# Altium schematic symbol library main.SchLib: 296 symbols (part 4 of 5)
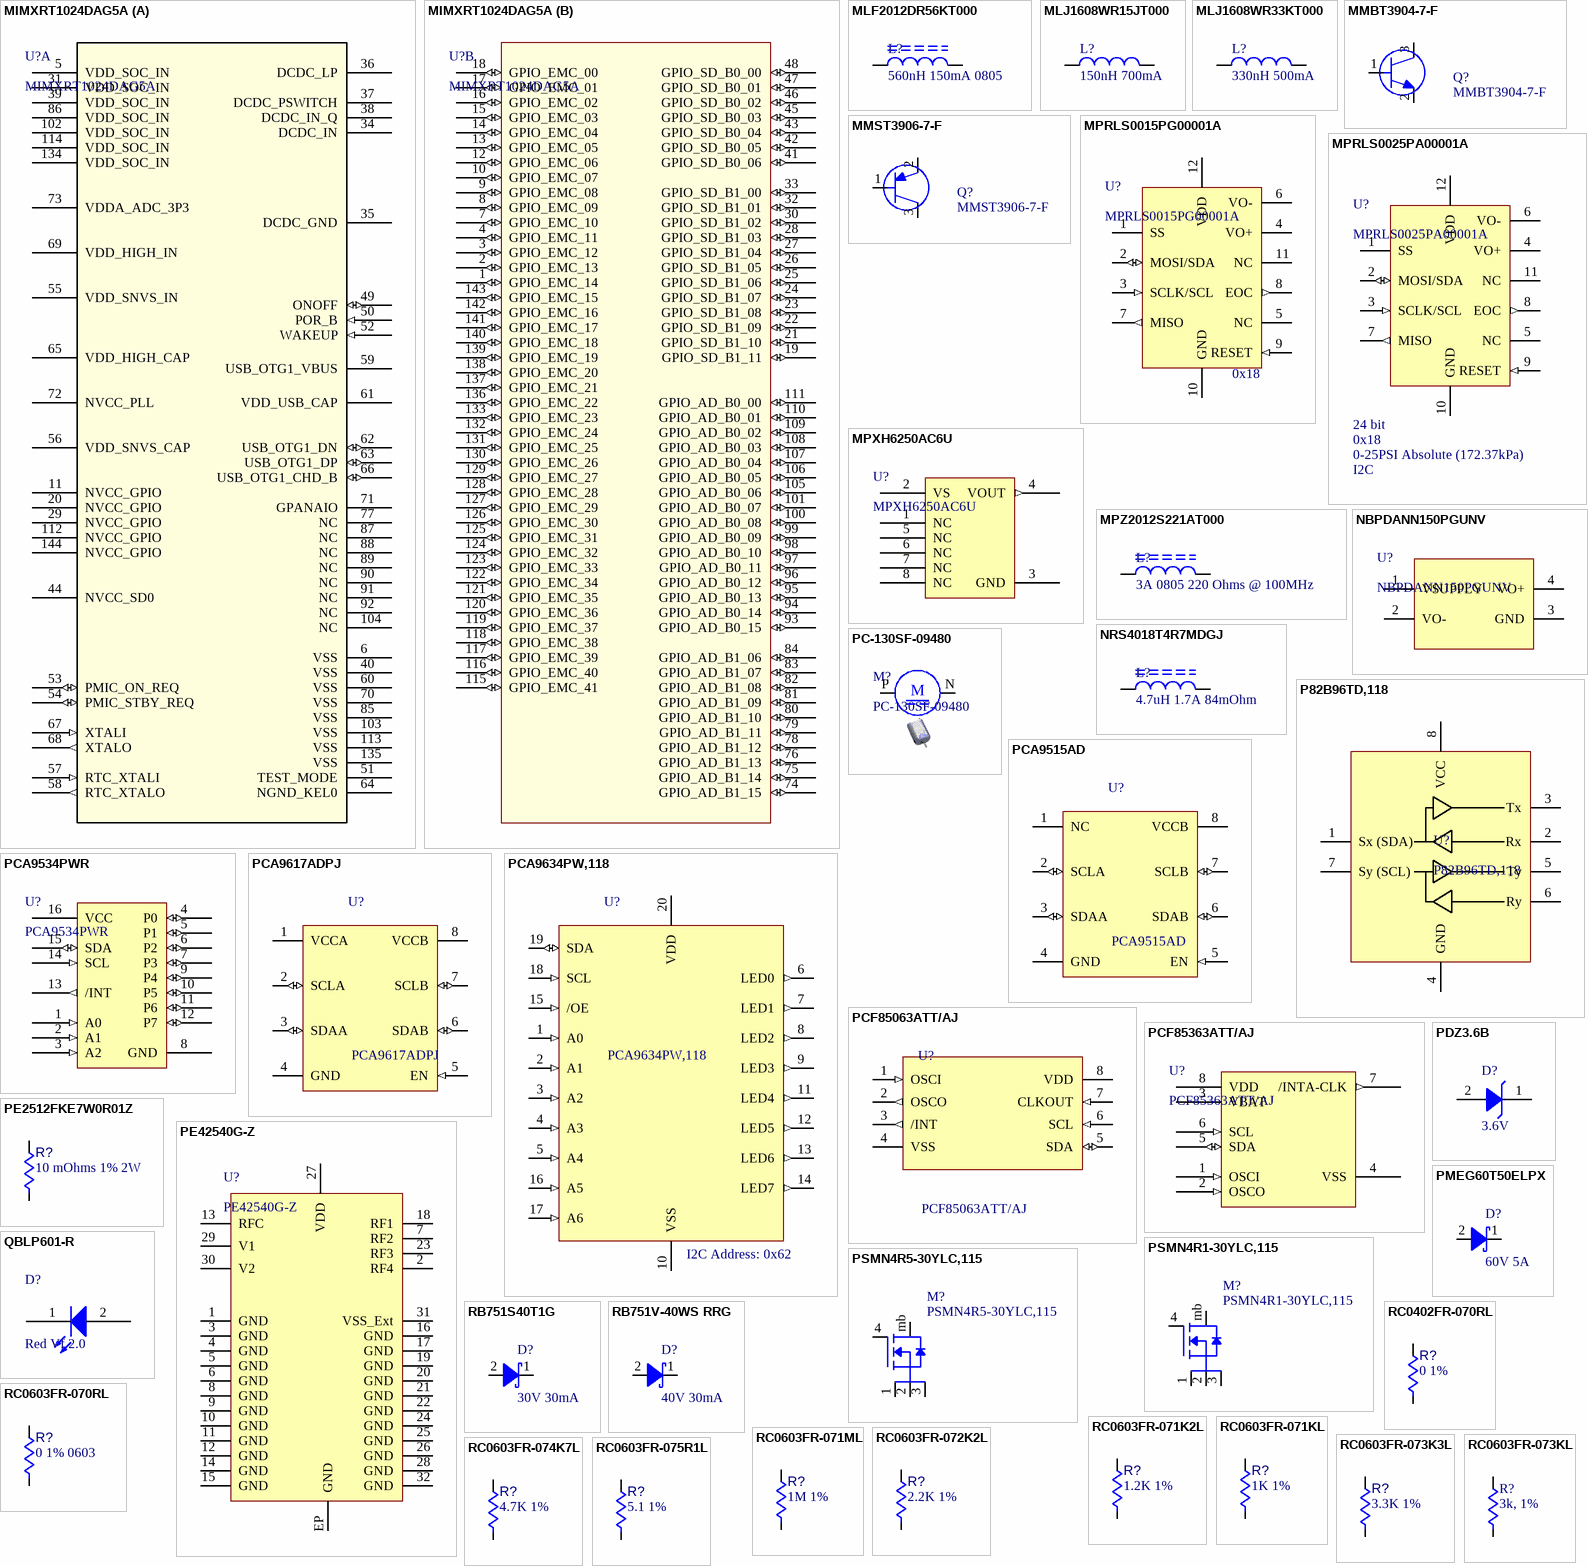
[diagram p12: symbols MIMXRT1024DAG5A to RC0603FR-075R1L]

## MPXH6250AC6U
designator U?
IC PRESSURE absolute 20-250kPA SSOP8; Manufacturer: NXP Freescale; Voltage Rating (DC): 5V; Output Type: Analog Voltage,Analog; Operating Pressure: 36.26PSI; Port Style: Barbless; Max Pressure: 145.04PSI; Accuracy: 1.5%; Max Output Voltage: 4.9V; Min Output Voltage: 4.826V; Nominal Supply Current: 6mA; Min Supply Voltage: 4.74V; Max Supply Voltage: 5.46V; Operating Supply Voltage: 5.1V; Manufacturer Part Number: MPXH6250AC6U; Category: Integrated Circuits (ICs); Stock 1: 1795; Pricing 1: 1=12.72000, 5=12.46000, 10=10.38300, 25=9.60400, 50=9.34460, 100=8.04670, 500=7.52754, 1000=7.13818 (USD); Case/Package: SSOP; Min Operating Temperature: -40°C; Max Operating Temperature: 125°C; Pressure Type: Absolute; Output Voltage: 4.9V; Height: 9.91mm; ComponentLink1URL: https://datasheet.ciiva.com/15099/getdatasheetpartid-295348-15099231.pdf?src-supplier=Verical; ComponentLink1Description: https://datasheet.ciiva.com/15099/getdatasheetpartid-295348-15099231.pdf?src-supplier=Verical; Supplier 1: Mouser; Supplier Part Number 1: 841-MPXH6250AC6U
footprint SOIC127P1040X480-8N (SOIC, 8-Leads, Body 8.26x8.26mm, Pitch 1.27mm, IPC Medium Density)
pins: 1 NC, 2 VS (power), 3 GND (power), 4 VOUT (out), 5 NC, 6 NC, 7 NC, 8 NC

## MPZ2012S221AT000
designator L?, comment 3A 0805 220 Ohms @ 100MHz
FERRITE BEAD 220 OHM 0805 1LN; Manufacturer: TDK; Manufacturer Part Number: MPZ2012S221AT000; Core Material: Metal,Composite; DC Resistance (DCR): 40mOhm; Case/Package: 0805; Min Operating Temperature: -40°C; Max Operating Temperature: 125°C; Current Rating: 3A; ComponentLink1URL: http://www.samsungsem.com/kr/support/product-search/inductor/CIGT201208EH1R0MNE.jsp?src-supplier=Digi-Key; ComponentLink1Description: http://www.samsungsem.com/kr/support/product-search/inductor/CIGT201208EH1R0MNE.jsp?src-supplier=Digi-Key; Supplier 1: Digi-Key; Supplier Part Number 1: 445-1568-1-ND; Supplier 2: Newark; Supplier Part Number 2: 99R3647
footprint CAPC2012X14N (Chip Capacitor, 2-Leads, Body 2.00x1.25mm, IPC Medium Density)
pins: 1, 2

## NBPDANN150PGUNV
designator U?
SENSOR 150 PSIG UNAMPLIFIED DIP; Manufacturer: Honeywell; Interface: Analog; Pressure Range: 150PSI Gauge; Supply Voltage: 1.5 ~ 12 VDC; Manufacturer Part Number: NBPDANN150PGUNV; Supplier 1: Digi-Key; Supplier Part Number 1: 480-5548-ND
footprint NBP Through Hole Pressure Sensor
pins: 1 VSUPPLY, 2 VO-, 3 GND, 4 VO+

## NRS4018T4R7MDGJ
designator L?, comment 4.7uH 1.7A 84mOhm
FIXED IND 4.7UH 1.7A 84 MOHM SMD; Manufacturer: Taiyo Yuden; Manufacturer Part Number: NRS4018T4R7MDGJ; Type: Wirewound; Inductance: 4.7µH; Current - Saturation (Isat): 2A; DC Resistance (DCR): 84mR; Tolerance: ±20%; Shielding: Shielded; Frequency - Self Resonant: 35MHz; Stock 1: 4346; Current Rating (Amps): 1.7A; Supplier 1: Digi-Key; Supplier Part Number 1: 587-2893-1-ND; Supplier 2: Newark; Supplier Part Number 2: 26AC2708; Supplier 3: Mouser; Supplier Part Number 3: 963-NRS4018T4R7MDGJ
footprint INDUCTOR2mmx2mmx1.8mm
pins: 1, 2

## P82B96TD,118
designator U?
IC REDRIVER I2C 2CH 400KHZ 8SO; Manufacturer: NXP; Manufacturer Part Number: P82B96TD,118; Supplier 1: Digi-Key; Supplier Part Number 1: 568-1009-1-ND
footprint SOIC-8 3.9mm Width
pins: 1 Sx (SDA), 2 Rx, 3 Tx, 4 GND (power), 5 Ty, 6 Ry, 7 Sy (SCL), 8 VCC (power)

## PC-130SF-09480
designator M?
MOTOR DC brushed 12V 130 frame TH
footprint PC-130SF-end (Nichibo PC-130SF-09480T- motor v1)
pins: N NEG, P POS
text: M

## PCA9515AD
designator U?
IC REDRIVER I2C 1CH 400KHZ 8SO; Manufacturer: NXP; Supply Voltage: 2.7V ~ 3.6V; Type: Buffer, Redriver; Data Interface: I2C; ComponentLink1Description: Link; ComponentLink1URL: https://www.digikey.com/en/products/detail/maxim-integrated/MAX11613EUA-T/2062201; Manufacturer Part Number: PCA9515AD; Supplier 1: Digi-Key; Supplier Part Number 1: 296-20646-1-ND; Supplier 2: Mouser; Supplier Part Number 2: 595-PCA9515ADGKR
footprint SOIC-8 3.9mm Width
pins: 1 NC, 2 SCLA (io), 3 SDAA (io), 4 GND, 5 EN (in), 6 SDAB (io), 7 SCLB (io), 8 VCCB (power)

## PCA9534PWR
designator U?
IC GPIO 16b expander TSSOP16; Manufacturer: Texas Instruments; Number of I/Os: 8; Frequency: 400kHz; Operating Supply Voltage: 5.5V; Supplier 1: Digi-Key; Manufacturer Part Number: PCA9534PWR; Category: Interface ICs; Stock 1: 39507; Pricing 1: 1=1.69000, 10=1.51600, 25=1.43000, 100=1.14400, 250=1.00100, 500=0.97240, 1000=0.77220 (USD); Case/Package: TSSOP; Min Operating Temperature: -40°C; Max Operating Temperature: 85°C; Max Frequency: 400kHz; Number of Outputs: 8; ComponentLink1URL: https://datasheet.ciiva.com/15134/getdatasheetpartid-253001-15134573.pdf?src-supplier=Verical; ComponentLink1Description: https://datasheet.ciiva.com/15134/getdatasheetpartid-253001-15134573.pdf?src-supplier=Verical; Supplier Part Number 1: 296-21764-1-ND
footprint PW0016A_N (SOP, 16-Leads, Body 5.1x4.5mm, Pitch 0.65mm, IPC Medium Density)
pins: 1 A0 (in), 2 A1 (in), 3 A2 (in), 4 P0 (io), 5 P1 (io), 6 P2 (io), 7 P3 (io), 8 GND (power), 9 P4 (io), 10 P5 (io), 11 P6 (io), 12 P7 (io), 13 /INT (out), 14 SCL (in), 15 SDA (io), 16 VCC (power)

## PCA9617ADPJ
designator U?
IC REDRIVER I2C 1CH 1MHZ 8TSSOP; Manufacturer: NXP; Supply Voltage: 2.7V ~ 5.5V; Type: Buffer, Redriver; Data Interface: I2C; ComponentLink1Description: Link; ComponentLink1URL: https://www.digikey.com/en/products/detail/maxim-integrated/MAX11613EUA-T/2062201; Manufacturer Part Number: PCA9617ADPJ; Supplier 1: Digi-Key; Supplier Part Number 1: 568-10211-1-ND
footprint TSOP65P490X110-8N (TSOP, 8-Leads, Body 3.00x3.00mm, Pitch 0.65mm, IPC Medium Density)
pins: 1 VCCA, 2 SCLA (io), 3 SDAA (io), 4 GND, 5 EN (in), 6 SDAB (io), 7 SCLB (io), 8 VCCB (power)

## PCA9634PW,118
designator U?  I2C Address: I2C Address: 0x62
IC LED DRVR LIN DIM 25MA 20TSSOP; Manufacturer: NXP; Number of Outputs: 8; Data Interface: I2C; Supply Voltage: 2.3V ~ 5.5V; Type: I2C LED Driver; ComponentLink1Description: Link; ComponentLink1URL: https://www.digikey.com/en/products/detail/maxim-integrated/MAX11613EUA-T/2062201; Manufacturer Part Number: PCA9634PW,118; Supplier 1: Digi-Key; Supplier Part Number 1: 568-4066-1-ND; Supplier 2: Newark; Supplier Part Number 2: 30T3005
footprint TSSOP-20, 4.4mm body width, pitch 0.65mm (TSOP, 20-Leads, Body 4.40mm width, Pitch 0.65mm)
pins: 1 A0 (in), 2 A1 (in), 3 A2 (in), 4 A3 (in), 5 A4 (in), 6 LED0 (out), 7 LED1 (out), 8 LED2 (out), 9 LED3 (out), 10 VSS (power), 11 LED4 (out), 12 LED5 (out), 13 LED6 (out), 14 LED7 (out), 15 /OE (in), 16 A5 (in), 17 A6 (in), 18 SCL (in), 19 SDA (io), 20 VDD

## PCF85063ATT/AJ
designator U?
IC RTC CLK/CALENDAR I2C 8TSSOP; Manufacturer: NXP; Time Format: HH:MM:SS (12/24 hr); Date Format: YY-MM-DD-dd; Voltage - Supply: 0.9V ~ 5.5V; Connectivity: I²C, 2 Wire Serial; Manufacturer Part Number: PCF85063ATT/AJ; Operating Temperature: -40°C ~ 85°C (TA); Type: Clock/Calendar; Supplier 1: Newark; Supplier 2: Mouser; Supplier 3: Digi-Key; Supplier Part Number 1: 31AC6849; Supplier Part Number 2: 771-PCF85063ATT/AJ; Supplier Part Number 3: 568-12404-1-ND
footprint TSOP65P490X110-8N (TSOP, 8-Leads, Body 3.00x3.00mm, Pitch 0.65mm, IPC Medium Density)
pins: 1 OSCI (in), 2 OSCO (out), 3 /INT (out), 4 VSS, 5 SDA (io), 6 SCL (in), 7 CLKOUT (in), 8 VDD (power)

## PCF85363ATT/AJ
designator U?
IC RTC coin cell backup TSSOP8; Manufacturer: NXP Semiconductors; Date Format: YY-MM-DD-dd; Time Format: HH:MM:SS:hh (12/24 hr); Interface: I2C,Serial,2-Wire; Logic Function: Clock; Max Supply Voltage: 5.5V; Min Supply Voltage: 900mV; Supplier 1: Digi-Key; Manufacturer Part Number: PCF85363ATT/AJ; Category: Real Time Clocks; Stock 1: 41625; Pricing 1: 1=1.10000, 10=0.98300, 25=0.93320, 100=0.76660, 250=0.71660, 500=0.63328, 1000=0.49995 (USD); Case/Package: TSSOP; Min Operating Temperature: -40°C; Max Operating Temperature: 85°C; ComponentLink1URL: http://www.farnell.com/datasheets/2339786.pdf?src-supplier=Farnell; ComponentLink1Description: http://www.farnell.com/datasheets/2339786.pdf?src-supplier=Farnell; Supplier Part Number 1: 568-12408-1-ND
footprint TSOP65P490X110-8N (TSOP, 8-Leads, Body 3.00x3.00mm, Pitch 0.65mm, IPC Medium Density)
pins: 1 OSCI (in), 2 OSCO (in), 3 VBAT (power), 4 VSS (power), 5 SDA (io), 6 SCL (in), 7 /INTA-CLK (out), 8 VDD (power)

## PDZ3.6B
designator D?, comment 3.6V
DIODE ZENER 3.6V 400mW SOD323; Manufacturer: Philips; Manufacturer Part Number: PDZ3.6B,115; Number of Gates: 2; Frequency: 30MHz; Output Current: 2.4mA; Supplier 1: Digi-Key; Category: Rectifier Diodes; Stock 1: 5667; Pricing 1: 1=0.20000, 10=0.18100, 25=0.17240, 100=0.07590, 250=0.07288, 500=0.05962, 1000=0.04140 (USD); Supplier Part Number 1: 1727-5151-1-ND
footprint SOP127P600-8N - SOD323 - directional (SOD323 - directional)
pins: 1 K, 2 A

## PE2512FKE7W0R01Z
designator R?, comment 10 mOhms 1% 2W
RES 10M OHM 1% 2W 2512; Manufacturer: Yageo; Manufacturer Part Number: PE2512FKE7W0R01Z; Temperature Coefficient: ±100ppm/°C; Resistance: 10meg ohm; Category: Resistors; Stock 1: 6,750; Tolerance: ±1%; Power (Watts): 2W; Operating Temperature: -55°C ~ 175°C; ComponentLink1URL: http://www.yageo.com/documents/recent/PYu-RC_Group_51_RoHS_L_7.pdf; ComponentLink1Description: http://www.yageo.com/documents/recent/PYu-RC_Group_51_RoHS_L_7.pdf; Supplier 1: Digi-Key; Supplier Part Number 1: 13-PE2512FKE7W0R01ZCT-ND
footprint Resistor 2512 (0.25''x0.125'')
pins: 1, 2

## PE42540G-Z
designator U?
IC RF SWITCH SP4T 8GHZ 32LGA; Manufacturer: pSemi; Number of Channels: 1; Voltage - Supply: 3.3V; Frequency Range: 10GHx-8GHz; Manufacturer Part Number: PE42540G-Z; Category: RF Switches; Min Operating Temperature: -40°C; Max Operating Temperature: 85°C; Circuit: SP4T; ComponentLink1URL: https://datasheet.ciiva.com/4787/ds-ft232r-11534-4787658.pdf?src-supplier=Mouser; ComponentLink1Description: https://datasheet.ciiva.com/4787/ds-ft232r-11534-4787658.pdf?src-supplier=Mouser; Supplier 1: Digi-Key; Supplier Part Number 1: 1046-1064-1-ND
footprint VFQFPN-32 5x5mm w EP
pins: 1 GND (power), 2 RF4 (power), 3 GND (power), 4 GND (power), 5 GND (power), 6 GND (power), 7 RF2 (power), 8 GND (power), 9 GND (power), 10 GND (power), 11 GND (power), 12 GND (power), 13 RFC (power), 14 GND (power), 15 GND (power), 16 GND (power), 17 GND (power), 18 RF1 (power), 19 GND (power), 20 GND (power), 21 GND (power), 22 GND (power), 23 RF3 (power), 24 GND (power), 25 GND (power), 26 GND (power), 27 VDD (power), 28 GND (power), 29 V1 (power), 30 V2 (power), 31 VSS_Ext (power), 32 GND (power), EP GND (power)

## PMEG60T50ELPX
designator D?, comment 60V 5A
DIODE SCHOTTKY 60V 5A SOD-128; Manufacturer: Nexperia USA Inc; Manufacturer Part Number: PMEG60T50ELPX; Forward Voltage: 690mV @ 5A; Capacitance: 560pF @ 1V, 1MHz; Output Current: 30mA; Max Reverse Leakage Current: 1.8 µA @ 60 V; Operating Temperature - Junction: 175°C (max); Voltage Rating (DC): 60V; Supplier 1: Digi-Key; Supplier 2: Mouser; Supplier Part Number 2: 771-PMEG60T50ELPX; Supplier Part Number 1: 1727-7808-1-ND
footprint SOD-128
pins: 1 K, 2 A

## PSMN4R1-30YLC,115
designator M?
MOSFET N-CH 30V 92A LFPAK56; Manufacturer: NXP; Gate to Source Voltage (Vgs): 20V; Rds On Max: 4.35mOhm @ 20A, 10V; Power Dissipation (Max): 61W; Input Capacitance: 1502 pF @ 15 V; Gate Charge: 23 nC @ 10 V; SOA DC: 2.5A @ 12VDS; SOA 1ms: 20A @ 12VDS; Manufacturer Part Number: PSMN4R1-30YLC,115; Min Operating Temperature: -55°C; Max Operating Temperature: 175°C; Type: N-Channel; Current - Continuous Drain (Id) @ 25°C: 92A; Drain to Source Voltage (Vdss): 30V; Drain to Source Breakdown Voltage: 30V; ComponentLink1URL: https://datasheet.ciiva.com/13063/csd18531q5a-108247-13063440.pdf; ComponentLink1Description: https://datasheet.ciiva.com/13063/csd18531q5a-108247-13063440.pdf; Supplier 1: Digi-Key; Supplier Part Number 1: 1727-5304-1-ND
footprint SOT669
pins: 1 S1, 2 S2, 3 S3, 4 G, mb D8

## PSMN4R5-30YLC,115
designator M?
MOSFET N-CH 30V 84A LFPAK56; Manufacturer: NXP; Gate to Source Voltage (Vgs): 20V; Rds On Max: 4.8mOhm @ 20A, 10V; Drain to Source Voltage (Vdss): 60V; Power Dissipation (Max): 61W; Input Capacitance: 1324 pF @ 15 V; Gate Charge: 20.5 nC @ 10 V; SOA DC: 3A @ 12VDS; SOA 1ms: 20A @ 12VDS; Manufacturer Part Number: PSMN4R5-30YLC,115; Min Operating Temperature: -55°C; Max Operating Temperature: 175°C; Type: N-Channel; Current - Continuous Drain (Id) @ 25°C: 84A; Drain to Source Breakdown Voltage: 30V; ComponentLink1URL: https://datasheet.ciiva.com/13063/csd18531q5a-108247-13063440.pdf; ComponentLink1Description: https://datasheet.ciiva.com/13063/csd18531q5a-108247-13063440.pdf; Supplier 1: Digi-Key; Supplier Part Number 1: 1727-5305-1-ND
footprint SOT669
pins: 1 S1, 2 S2, 3 S3, 4 G, mb D8

## QBLP601-R
designator D?, comment Red Vf 2.0
LED RED 0603; Manufacturer: QT Brightek (QTB); Manufacturer Part Number: QBLP601-R; Lens Color: Colorless; Lens Transparency: Clear; Millicandela Rating: 100mcd; Lens Style/Size: Rectangle with Flat Top, 1.10mm x 0.80mm; Voltage - Forward (Vf) (Typ): 2V; Current - Test: 20mA; Wavelength - Dominant: 625nm; Supplier 1: Digi-Key; Stock 1: 2439; Viewing Angle: -; Supplier Part Number 1: 1516-1059-1-ND; Category: Optoelectronics; Pricing 1: 1=0.47, 10=0.337, 25=0.258, 100=0.1683, 250=0.12344, 500=0.10472, 1000=0.08602 (USD); Mounting Type: Surface Mount; Wavelength - Peak: -; Features: -; Height (Max): 0.60mm; ComponentLink1URL: http://www.qt-brightek.com/datasheet/QBLP601_series.pdf; ComponentLink1Description: http://www.qt-brightek.com/datasheet/QBLP601_series.pdf
footprint LS0603_LED (MATCHES OSRAM LS-603 PACKAGE)
pins: 1 K, 2 A

## RB751S40T1G
designator D?, comment 30V 30mA
DIODE SCHOTTKY 30V 30MA SOD523; Manufacturer: ON Semiconductor / Fairchild; Manufacturer Part Number: RB751S40T1G; Forward Voltage: 370 mV @ 1 mA; Capacitance: 2.5pF @ 1V, 1MHz; Max Reverse Leakage Current: 500nA @30V; Min Operating Temperature: -55°C; Max Operating Temperature: 150°C; Voltage Rating (DC): 30V; Output Current: 30mA; Reverse Voltage: 30V; Supplier 1: Digi-Key; Supplier Part Number 1: RB751S40T1GOSCT-ND
footprint SOD-523
pins: 1 K, 2 A

## RB751V-40WS RRG
designator D?, comment 40V 30mA
DIODE SCHOTTKY 40V 30MA SOD323F; Manufacturer: ON Semiconductor / Fairchild; Manufacturer Part Number: RB751V-40WS RRG; Forward Voltage: 370 mV @ 1 mA; Capacitance: 2pF @ 1V, 1MHz; Max Reverse Leakage Current: 500nA @40V; Min Operating Temperature: -40°C; Max Operating Temperature: 125°C; Voltage Rating (DC): 40V; Output Current: 30mA; Reverse Voltage: 40V; Supplier 1: Digi-Key; Supplier Part Number 1: RB751V-40WSRRGCT-ND; Supplier 2: Mouser; Supplier Part Number 2: 821-RB751V-40WSRRG
footprint SOD-323 UNIDIRECTIONAL
pins: 1 K, 2 A

## RC0402FR-070RL
designator R?, comment 0 1%
RES 0 JUMPER 1/10W 0402; Manufacturer: Yageo; Manufacturer Part Number: RC0402FR-070RL; Resistance: 0mR; Power Rating: 62.5mW; Voltage Rating: 50V; Temperature Coefficient: 200ppm/°C; Supplier 1: Digi-Key; Category: Chip SMD Resistors; Stock 1: 2292192; Pricing 1: 1=0.10000, 10=0.01300, 25=0.00920, 50=0.00720, 100=0.00530, 250=0.00400, 500=0.00320, 1000=0.00236, 5000=0.00169 (USD); Case/Package: 0402; Min Operating Temperature: -55°C; Max Operating Temperature: 155°C; Tolerance: 1%; Height: 0.35mm; ComponentLink1URL: https://datasheet.ciiva.com/8896/pyu-rc0402-51-rohs-l-6-8896149.pdf?src-supplier=Avnet; ComponentLink1Description: https://datasheet.ciiva.com/8896/pyu-rc0402-51-rohs-l-6-8896149.pdf?src-supplier=Avnet; Supplier Part Number 1: 311-0.0LRCT-ND
pins: 1, 2

## RC0603FR-070RL
designator R?, comment 0 1% 0603
RES 0 JUMPER 1/10W 0603; Manufacturer: Yageo; Manufacturer Part Number: RC0603FR-070RL; Power (Watts): 0.1W, 1/10W; Category: Resistors; Stock 1: 978054; Pricing 1: 1=0.1, 10=0.013, 25=0.0092, 50=0.007, 100=0.0052, 250=0.00396, 500=0.00316, 1000=0.00233 (USD); Tolerance: Jumper; Features: Moisture Resistant; Temperature Coefficient: -; Operating Temperature: -55°C ~ 155°C; ComponentLink1URL: http://www.yageo.com/documents/recent/PYu-RC_Group_51_RoHS_L_7.pdf; ComponentLink1Description: http://www.yageo.com/documents/recent/PYu-RC_Group_51_RoHS_L_7.pdf; Supplier 1: Newark; Supplier Part Number 1: 50Y7761
footprint RESC1608X06N (Chip Resistor, 2-Leads, Body 1.60x0.80mm, IPC Medium Density)
pins: 1, 2

## RC0603FR-071K2L
designator R?, comment 1.2K 1%
RES SMD 1.2K OHM 1% 1/10W 0603; Manufacturer: Yageo; Manufacturer Part Number: RC0603FR-071K2L; Temperature Coefficient: 100ppm/°C; Power Rating: 100mW; Voltage Rating (DC): 50V; Resistance: 1.2kR; Supplier 1: Digi-Key; Category: Chip SMD Resistors; Pricing 1: 1=0.10000, 10=0.02300, 100=0.00940, 1000=0.00421, 2500=0.00366 (USD); Case/Package: 0603; Min Operating Temperature: -55°C; Max Operating Temperature: 155°C; Tolerance: 1%; Voltage Rating: 50V; Height: 0.45mm; ComponentLink1URL: http://www.farnell.com/datasheets/2167052.pdf?src-supplier=Farnell; ComponentLink1Description: http://www.farnell.com/datasheets/2167052.pdf?src-supplier=Farnell; Supplier Part Number 1: 311-1.20KHRCT-ND
footprint RESC1608X06N (Chip Resistor, 2-Leads, Body 1.60x0.80mm, IPC Medium Density)
pins: 1, 2

## RC0603FR-071KL
designator R?, comment 1K 1%
RES SMD 1K OHM 1% 1/10W 0603; Manufacturer: Yageo; Manufacturer Part Number: RC0603FR-071KL; Power (Watts): 0.1W, 1/10W; Temperature Coefficient: ±100ppm/°C; Resistance: 1kohm; Category: Resistors; Pricing 1: 1=0.1, 10=0.015, 100=0.006, 1000=0.00268, 2500=0.00233 (USD); Tolerance: ±1%; Features: Moisture Resistant; Operating Temperature: -55°C ~ 155°C; Stock 1: 28,390,477; Supplier 1: Digi-Key; Supplier Part Number 1: 311-1.00KHRCT-ND
footprint RESC1608X06N (Chip Resistor, 2-Leads, Body 1.60x0.80mm, IPC Medium Density)
pins: 1, 2

## RC0603FR-071ML
designator R?, comment 1M 1%
RES SMD 1M OHM 1% 1/10W 0603; Manufacturer: Yageo; Manufacturer Part Number: RC0603FR-071ML; Power (Watts): 0.1W, 1/10W; Temperature Coefficient: ±100ppm/°C; Resistance: 1Meg ohm; Supplier 1: Digi-Key; Category: Resistors; Stock 1: 3013629; Pricing 1: 1=0.1, 10=0.015, 100=0.006, 1000=0.00268, 2500=0.00233 (USD); Tolerance: ±1%; Features: Moisture Resistant; Operating Temperature: -55°C ~ 155°C; ComponentLink1URL: http://www.yageo.com/documents/recent/PYu-RC_Group_51_RoHS_L_7.pdf; ComponentLink1Description: http://www.yageo.com/documents/recent/PYu-RC_Group_51_RoHS_L_7.pdf; Supplier Part Number 1: 311-1.00MHRCT-ND
footprint RESC1608X06N (Chip Resistor, 2-Leads, Body 1.60x0.80mm, IPC Medium Density)
pins: 1, 2

## RC0603FR-072K2L
designator R?, comment 2.2K 1%
RES SMD 2.2K OHM 1% 1/10W 0603; Manufacturer: Yageo; Manufacturer Part Number: RC0603FR-072K2L; Resistance: 2.2kR; Temperature Coefficient: 100ppm/°C; Power Rating: 100mW; Voltage Rating: 50V; ComponentLink1URL: http://www.yageo.com/documents/recent/PYu-RC_Group_51_RoHS_L_7.pdf; ComponentLink1Description: http://www.yageo.com/documents/recent/PYu-RC_Group_51_RoHS_L_7.pdf; Supplier 1: Digi-Key; Supplier Part Number 1: 311-2.20KHRCT-ND; Stock 1: 7114; Pricing 1: 1=0.1, 10=0.015, 100=0.006, 1000=0.00268, 2500=0.00233 (USD); Case/Package: 0603; Min Operating Temperature: -55°C; Max Operating Temperature: 155°C; Tolerance: 1%; Number of Terminations: 2; Max Power Dissipation: 100mW; Height: 0.022inch
footprint RESC1608X06N (Chip Resistor, 2-Leads, Body 1.60x0.80mm, IPC Medium Density)
pins: 1, 2

## RC0603FR-073K3L
designator R?, comment 3.3K 1%
RES SMD 3.3K OHM 1% 1/10W 0603; Manufacturer: Yageo; Manufacturer Part Number: RC0603FR-073K3L; Power (Watts): 0.1W, 1/10W; Temperature Coefficient: ±100ppm/°C; Category: Resistors; Tolerance: ±1%; Features: Moisture Resistant; Operating Temperature: -55°C ~ 155°C; Stock 1: 2,139,603; Supplier 1: Digi-Key; Supplier Part Number 1: 311-3.30KHRCT-ND; Resistance: 3.3kohm
footprint RESC1608X06N (Chip Resistor, 2-Leads, Body 1.60x0.80mm, IPC Medium Density)
pins: 1, 2

## RC0603FR-073KL
designator R?, comment 3k, 1%
RES SMD 3K OHM 1% 1/10W 0603; Manufacturer: Yageo; Manufacturer Part Number: RC0603FR-073KL; Power (Watts): 0.1W, 1/10W; Temperature Coefficient: ±100ppm/°C; Resistance: 3kohm; Category: Resistors; Stock 1: 1,794,253; Tolerance: ±1%; Features: Moisture Resistant; Operating Temperature: -55°C ~ 155°C; ComponentLink1URL: http://www.yageo.com/documents/recent/PYu-RC_Group_51_RoHS_L_9.pdf; ComponentLink1Description: http://www.yageo.com/documents/recent/PYu-RC_Group_51_RoHS_L_9.pdf; Supplier 1: Digi-Key; Supplier Part Number 1: P3.00KLCT-ND
footprint RESC1608X06N (Chip Resistor, 2-Leads, Body 1.60x0.80mm, IPC Medium Density)
pins: 1, 2

## RC0603FR-074K7L
designator R?, comment 4.7K 1%
RES SMD 4.7K OHM 1% 1/10W 0603; Manufacturer: Yageo; Manufacturer Part Number: RC0603FR-074K7L; Temperature Coefficient: 100ppm/°C; Resistance: 4.7kR; Voltage Rating (DC): 50V; Power Rating: 100mW; Supplier 1: Digi-Key; Category: Chip SMD Resistors; Stock 1: 3537070; Pricing 1: 1=0.10000, 10=0.02300, 100=0.00940, 1000=0.00421, 2500=0.00366 (USD); Case/Package: 0603; Min Operating Temperature: -55°C; Max Operating Temperature: 155°C; Tolerance: 1%; Voltage Rating: 50V; Height: 0.45mm; Lead Pitch: 0.3mm; ComponentLink1URL: https://datasheet.ciiva.com/15189/getdatasheetpartid-422754-15189760.pdf?src-supplier=Verical; ComponentLink1Description: https://datasheet.ciiva.com/15189/getdatasheetpartid-422754-15189760.pdf?src-supplier=Verical; Supplier Part Number 1: 311-4.70KHRDKR-ND
footprint RESC1608X06N (Chip Resistor, 2-Leads, Body 1.60x0.80mm, IPC Medium Density)
pins: 1, 2

## RC0603FR-075R1L
designator R?, comment 5.1 1%
RES SMD 5.1 OHM 1% 1/10W 0603; Manufacturer: Yageo; Manufacturer Part Number: RC0603FR-075R1L; Resistance: 5.1R; Power Rating: 100mW; Temperature Coefficient: 200ppm/°C; Voltage Rating: 50V; Supplier 1: Arrow; Category: Chip SMD Resistors; Stock 1: 2440; Pricing 1: 1=0.03400, 10=0.02360, 25=0.02330, 100=0.01200, 250=0.01190, 500=0.01110, 1000=0.00800 (USD); Case/Package: 0603; Min Operating Temperature: -55°C; Max Operating Temperature: 155°C; Tolerance: 1%; Features: Moisture Resistant; Max Power Dissipation: 100mW; Number of Terminations: 2; Height: 0.45mm; ComponentLink1URL: http://components.arrow.com/part/dataview/0323_00200983?src-supplier=Arrow+Europe; ComponentLink1Description: http://components.arrow.com/part/dataview/0323_00200983?src-supplier=Arrow+Europe; Supplier Part Number 1: RC0603FR-07 5R1L
footprint RESC1608X06N (Chip Resistor, 2-Leads, Body 1.60x0.80mm, IPC Medium Density)
pins: 1, 2

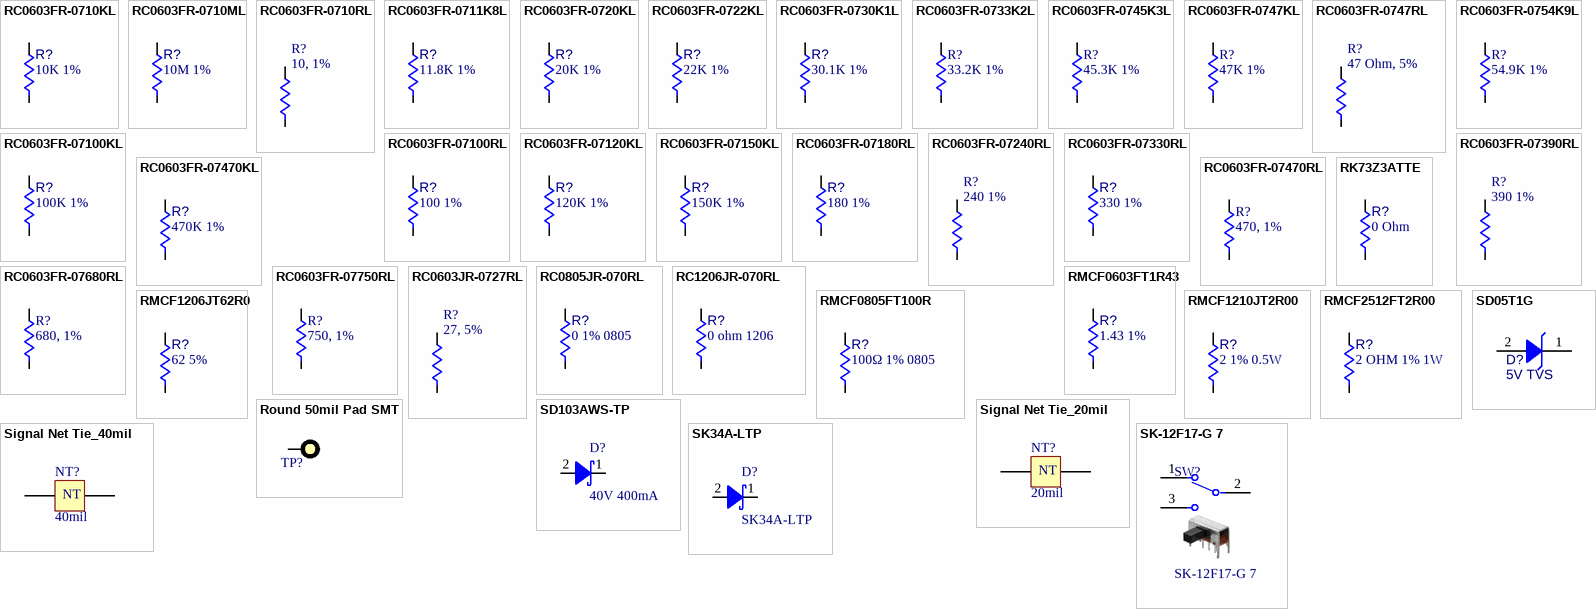
[diagram p7: symbols RC0603FR-0710KL to SK-12F17-G 7]

## RC0603FR-0710KL
designator R?, comment 10K 1%
RES SMD 10K OHM 1% 1/10W 0603; Manufacturer: Yageo; Manufacturer Part Number: RC0603FR-0710KL; Power (Watts): 0.1W, 1/10W; Temperature Coefficient: ±100ppm/°C; Resistance: 10kohm; Category: Resistors; Stock 1: 27,995,373; Pricing 1: 1=0.1, 10=0.015, 100=0.006, 1000=0.00268, 2500=0.00233 (USD); Tolerance: ±1%; Features: Moisture Resistant; Operating Temperature: -55°C ~ 155°C; ComponentLink1URL: http://www.yageo.com/documents/recent/PYu-RC_Group_51_RoHS_L_7.pdf; ComponentLink1Description: http://www.yageo.com/documents/recent/PYu-RC_Group_51_RoHS_L_7.pdf; Supplier 1: Digi-Key; Supplier Part Number 1: 311-10.0KHRCT-ND
footprint RESC1608X06N (Chip Resistor, 2-Leads, Body 1.60x0.80mm, IPC Medium Density)
pins: 1, 2

## RC0603FR-0710ML
designator R?, comment 10M 1%
RES SMD 10M OHM 1% 1/10W 0603; Manufacturer: Yageo; Manufacturer Part Number: RC0603FR-0710ML; Voltage Rating: 50V; Resistance: 10MR; Power Rating: 100mW; Tolerance: 5%; Temperature Coefficient: 100ppm/°C; Stock 1: 2965000; Pricing 1: 5000=0.00285, 10000=0.00248, 25000=0.00218, 50000=0.002 (USD); Case/Package: 0603; Min Operating Temperature: -55°C; Max Operating Temperature: 155°C; Voltage Rating (DC): 50V; Number of Terminations: 2; Max Power Dissipation: 100mW; Features: Moisture Resistant; Height: 0.022inch; Supplier 1: Digi-Key; Supplier Part Number 1: 311-10.0MHRCT-ND
footprint RESC1608X06N (Chip Resistor, 2-Leads, Body 1.60x0.80mm, IPC Medium Density)
pins: 1, 2

## RC0603FR-0710RL
designator R?, comment 10, 1%
RES SMD 10 OHM 1% 1/10W 0603; Manufacturer: Yageo; Manufacturer Part Number: RC0603FR-0710RL; Power (Watts): 0.1W, 1/10W; Temperature Coefficient: ±200ppm/°C; Resistance: 10ohms; Supplier 1: Digi-Key; Category: Resistors; Stock 1: 4452389; Pricing 1: 1=0.1, 10=0.015, 100=0.006, 1000=0.00268, 2500=0.00233 (USD); Tolerance: ±1%; Features: Moisture Resistant; Operating Temperature: -55°C ~ 155°C; ComponentLink1URL: http://www.yageo.com/documents/recent/PYu-RC_Group_51_RoHS_L_8.pdf; ComponentLink1Description: http://www.yageo.com/documents/recent/PYu-RC_Group_51_RoHS_L_8.pdf; Supplier Part Number 1: 311-10.0HRCT-ND
footprint RESC1608X06N (Chip Resistor, 2-Leads, Body 1.60x0.80mm, IPC Medium Density)
pins: 1, 2

## RC0603FR-0711K8L
designator R?, comment 11.8K 1%
RES SMD 11.8K OHM 1% 1/10W 0603; Manufacturer: Yageo; Manufacturer Part Number: RC0603FR-0711K8L; Temperature Coefficient: 100ppm/°C; Voltage Rating (DC): 50V; Resistance: 11.8kR; Power Rating: 100mW; Supplier 1: Digi-Key; Category: Chip SMD Resistors; Stock 1: 385078; Pricing 1: 1=0.10000, 10=0.02300, 100=0.00940, 1000=0.00421, 2500=0.00366 (USD); Case/Package: 0603; Min Operating Temperature: -55°C; Max Operating Temperature: 155°C; Tolerance: 1%; Voltage Rating: 50V; ComponentLink1URL: http://www.mouser.com/ds/2/447/RC0603-272842.pdf?src-supplier=Mouser; ComponentLink1Description: http://www.mouser.com/ds/2/447/RC0603-272842.pdf?src-supplier=Mouser; Supplier Part Number 1: 311-11.8KHRCT-ND
footprint RESC1608X06N (Chip Resistor, 2-Leads, Body 1.60x0.80mm, IPC Medium Density)
pins: 1, 2

## RC0603FR-0720KL
designator R?, comment 20K 1%
RES SMD 20K OHM 1% 1/10W 0603; Manufacturer: Yageo; Manufacturer Part Number: RC0603FR-0720KL; Power (Watts): 0.1W, 1/10W; Temperature Coefficient: ±100ppm/°C; Resistance: 20kohm; Category: Resistors; Stock 1: 4,317,543; Tolerance: ±1%; Features: Moisture Resistant; Operating Temperature: -55°C ~ 155°C; ComponentLink1URL: http://www.yageo.com/documents/recent/PYu-RC_Group_51_RoHS_L_7.pdf; ComponentLink1Description: http://www.yageo.com/documents/recent/PYu-RC_Group_51_RoHS_L_7.pdf; Supplier 1: Digi-Key; Supplier Part Number 1: 311-20.0KHRCT-ND
footprint RESC1608X06N (Chip Resistor, 2-Leads, Body 1.60x0.80mm, IPC Medium Density)
pins: 1, 2

## RC0603FR-0722KL
designator R?, comment 22K 1%
RES SMD 22K OHM 1% 1/10W 0603; Manufacturer: Yageo; Manufacturer Part Number: RC0603FR-0722KL; Power (Watts): 0.1W, 1/10W; Temperature Coefficient: ±100ppm/°C; Resistance: 22kohm; Supplier 1: Digi-Key; Category: Resistors; Stock 1: 1522212; Pricing 1: 1=0.1, 10=0.015, 100=0.006, 1000=0.00268, 2500=0.00233 (USD); Tolerance: ±1%; Features: Moisture Resistant; Operating Temperature: -55°C ~ 155°C; ComponentLink1URL: http://www.yageo.com/documents/recent/PYu-RC_Group_51_RoHS_L_7.pdf; ComponentLink1Description: http://www.yageo.com/documents/recent/PYu-RC_Group_51_RoHS_L_7.pdf; Supplier Part Number 1: 311-22.0KHRCT-ND
footprint RESC1608X06N (Chip Resistor, 2-Leads, Body 1.60x0.80mm, IPC Medium Density)
pins: 1, 2

## RC0603FR-0730K1L
designator R?, comment 30.1K 1%
RES SMD 30.1K OHM 1% 1/10W 0603; Manufacturer: Yageo; Manufacturer Part Number: RC0603FR-0730K1L; Resistance: 30.1kR; Temperature Coefficient: 100ppm/°C; Voltage Rating (DC): 50V; Power Rating: 100mW; Working Voltage: 75V; Supplier 1: Digi-Key; Category: Chip SMD Resistors; Stock 1: 765201; Pricing 1: 1=0.10000, 10=0.02300, 100=0.00940, 1000=0.00421, 2500=0.00366 (USD); Case/Package: 0603; Min Operating Temperature: -55°C; Max Operating Temperature: 155°C; Tolerance: 1%; Voltage Rating: 50V; Number of Terminations: 2; Height: 0.45mm; ComponentLink1URL: https://datasheet.ciiva.com/11808/0900766b80f96399-11808101.pdf?src-supplier=RSComponents; ComponentLink1Description: https://datasheet.ciiva.com/11808/0900766b80f96399-11808101.pdf?src-supplier=RSComponents; Supplier Part Number 1: 311-30.1KHRCT-ND
footprint RESC1608X06N (Chip Resistor, 2-Leads, Body 1.60x0.80mm, IPC Medium Density)
pins: 1, 2

## RC0603FR-0733K2L
designator R?, comment 33.2K 1%
RES SMD 33.2K OHM 1% 1/10W 0603; Manufacturer: Yageo; Manufacturer Part Number: RC0603FR-0733K2L; Resistance: 33.2kR; Temperature Coefficient: 100ppm/°C; Voltage Rating (DC): 50V; Power Rating: 100mW; Stock 1: 942253; Pricing 1: 1=0.1, 10=0.009, 50=0.009, 100=0.003, 1000=0.003, 10000=0.002 (USD); Case/Package: 0603; Min Operating Temperature: -55°C; Max Operating Temperature: 155°C; Tolerance: 1%; Voltage Rating: 50V; Number of Terminations: 2; Max Power Dissipation: 100mW; Height: 0.022inch; Supplier 1: Digi-Key; Supplier Part Number 1: 311-33.2KHRCT-ND
footprint RESC1608X06N (Chip Resistor, 2-Leads, Body 1.60x0.80mm, IPC Medium Density)
pins: 1, 2

## RC0603FR-0745K3L
designator R?, comment 45.3K 1%
RES SMD 45.3K OHM 1% 1/10W 0603; Manufacturer: Yageo; Manufacturer Part Number: RC0603FR-0745K3L; Resistance: 45.3kR; Power Rating: 100mW; Voltage Rating: 50V; Temperature Coefficient: 100ppm/°C; Supplier 1: Digi-Key; Category: Chip SMD Resistors; Stock 1: 319636; Pricing 1: 1=0.10000, 10=0.02300, 100=0.00940, 1000=0.00421, 2500=0.00366 (USD); Case/Package: 0603; Min Operating Temperature: -55°C; Max Operating Temperature: 155°C; Tolerance: 1%; Number of Terminations: 2; Max Power Dissipation: 100mW; Voltage Rating (DC): 50V; Features: Moisture Resistant; Height: 0.022inch; ComponentLink1URL: https://datasheet.ciiva.com/15189/getdatasheetpartid-251849-15189734.pdf?src-supplier=Verical; ComponentLink1Description: https://datasheet.ciiva.com/15189/getdatasheetpartid-251849-15189734.pdf?src-supplier=Verical; Supplier Part Number 1: 311-45.3KHRCT-ND
footprint RESC1608X06N (Chip Resistor, 2-Leads, Body 1.60x0.80mm, IPC Medium Density)
pins: 1, 2

## RC0603FR-0747KL
designator R?, comment 47K 1%
RES SMD 47K OHM 1% 1/10W 0603; Manufacturer: Yageo; Manufacturer Part Number: RC0603FR-0747KL; Resistance: 47kR; Temperature Coefficient: 100ppm/°C; Voltage Rating (DC): 50V; Power Rating: 100mW; Supplier 1: Mouser; Supplier Part Number 1: 603-RC0603FR-0747KL; Stock 1: 942253; Pricing 1: 1=0.1, 10=0.009, 50=0.009, 100=0.003, 1000=0.003, 10000=0.002 (USD); Case/Package: 0603; Min Operating Temperature: -55°C; Max Operating Temperature: 155°C; Tolerance: 1%; Voltage Rating: 50V; Number of Terminations: 2; Max Power Dissipation: 100mW; Height: 0.022inch; ComponentLink1URL: https://datasheet.ciiva.com/11808/0900766b80f96399-11808118.pdf; ComponentLink1Description: https://datasheet.ciiva.com/11808/0900766b80f96399-11808118.pdf
footprint RESC1608X06N (Chip Resistor, 2-Leads, Body 1.60x0.80mm, IPC Medium Density)
pins: 1, 2

## RC0603FR-0747RL
designator R?, comment 47 Ohm, 5%
RES SMD 47 OHM 1% 1/10W 0603; Manufacturer: Yageo; Manufacturer Part Number: RC0603FR-0747RL; Voltage Rating (DC): 50V; Resistance: 47R; Power Rating: 100mW; Temperature Coefficient: 100ppm/°C; Category: Chip SMD Resistors; Stock 1: 880,987; Pricing 1: 1=0.10000, 10=0.01900, 100=0.00770, 1000=0.00347, 2500=0.00301 (USD); Case/Package: 0603; Min Operating Temperature: -55°C; Max Operating Temperature: 155°C; Tolerance: 5%; Supplier 1: Digi-Key; Supplier Part Number 1: 311-47.0HRCT-ND; Load: *
footprint RESC1608X06N (Chip Resistor, 2-Leads, Body 1.60x0.80mm, IPC Medium Density)
pins: 1, 2

## RC0603FR-0754K9L
designator R?, comment 54.9K 1%
RES SMD 54.9K OHM 1% 1/10W 0603; Manufacturer: Yageo; Manufacturer Part Number: RC0603FR-0754K9L; Resistance: 54.9kR; Temperature Coefficient: 100ppm/°C; Voltage Rating (DC): 50V; Power Rating: 100mW; Stock 1: 942253; Pricing 1: 1=0.1, 10=0.009, 50=0.009, 100=0.003, 1000=0.003, 10000=0.002 (USD); Case/Package: 0603; Min Operating Temperature: -55°C; Max Operating Temperature: 155°C; Tolerance: 1%; Voltage Rating: 50V; Number of Terminations: 2; Max Power Dissipation: 100mW; Height: 0.022inch; Supplier 1: Digi-Key; Supplier Part Number 1: 311-54.9KHRCT-ND
footprint RESC1608X06N (Chip Resistor, 2-Leads, Body 1.60x0.80mm, IPC Medium Density)
pins: 1, 2

## RC0603FR-07100KL
designator R?, comment 100K 1%
RES SMD 100K OHM 1% 1/10W 0603; Manufacturer: Yageo; Manufacturer Part Number: RC0603FR-07100KL; Power (Watts): 0.1W, 1/10W; Temperature Coefficient: ±100ppm/°C; Resistance: 100kohms; Category: Resistors; Stock 1: 23,561,958; Tolerance: ±1%; Features: Moisture Resistant; Operating Temperature: -55°C ~ 155°C; ComponentLink1URL: http://www.yageo.com/documents/recent/PYu-RC_Group_51_RoHS_L_7.pdf; ComponentLink1Description: http://www.yageo.com/documents/recent/PYu-RC_Group_51_RoHS_L_7.pdf; Supplier 1: Digi-Key; Supplier Part Number 1: 311-100KHRCT-ND
footprint RESC1608X06N (Chip Resistor, 2-Leads, Body 1.60x0.80mm, IPC Medium Density)
pins: 1, 2

## RC0603FR-07100RL
designator R?, comment 100 1%
RES SMD 100 OHM 1% 1/10W 0603; Manufacturer: Yageo; Manufacturer Part Number: RC0603FR-07100RL; Power (Watts): 0.1W, 1/10W; Temperature Coefficient: ±100ppm/°C; Resistance: 100ohms; Supplier 1: Digi-Key; Category: Resistors; Stock 1: 6302706; Pricing 1: 1=0.1, 10=0.015, 100=0.006, 1000=0.00268, 2500=0.00233 (USD); Tolerance: ±1%; Features: Moisture Resistant; Operating Temperature: -55°C ~ 155°C; ComponentLink1URL: http://www.yageo.com/documents/recent/PYu-RC_Group_51_RoHS_L_7.pdf; ComponentLink1Description: http://www.yageo.com/documents/recent/PYu-RC_Group_51_RoHS_L_7.pdf; Supplier Part Number 1: 311-100HRCT-ND
footprint RESC1608X06N (Chip Resistor, 2-Leads, Body 1.60x0.80mm, IPC Medium Density)
pins: 1, 2

## RC0603FR-07120KL
designator R?, comment 120K 1%
RES SMD 120K OHM 1% 1/10W 0603; Manufacturer: Yageo; Manufacturer Part Number: RC0603FR-07120KL; Resistance: 120kR; Power Rating: 100mW; Voltage Rating: 50V; Temperature Coefficient: 100ppm/°C; Working Voltage: 75V; Supplier 1: Digi-Key; Category: Chip SMD Resistors; Stock 1: 1126729; Pricing 1: 1=0.10000, 10=0.02300, 100=0.00940, 1000=0.00421, 2500=0.00366 (USD); Case/Package: 0603; Min Operating Temperature: -55°C; Max Operating Temperature: 155°C; Tolerance: 1%; Voltage Rating (DC): 50V; Features: Moisture Resistant; Max Power Dissipation: 100mW; Number of Terminations: 2; Height: 0.022inch; ComponentLink1URL: https://datasheet.ciiva.com/11808/0900766b80f96399-11808757.pdf?src-supplier=RSComponents; ComponentLink1Description: https://datasheet.ciiva.com/11808/0900766b80f96399-11808757.pdf?src-supplier=RSComponents; Supplier Part Number 1: 311-120KHRCT-ND
footprint RESC1608X06N (Chip Resistor, 2-Leads, Body 1.60x0.80mm, IPC Medium Density)
pins: 1, 2

## RC0603FR-07150KL
designator R?, comment 150K 1%
RES SMD 150K OHM 1% 1/10W 0603; Manufacturer: Yageo; Manufacturer Part Number: RC0603FR-07150KL; Resistance: 150kR; Temperature Coefficient: 100ppm/°C; Voltage Rating (DC): 50V; Power Rating: 100mW; ComponentLink1URL: http://www.yageo.com/documents/recent/PYu-RC_Group_51_RoHS_L_7.pdf; ComponentLink1Description: http://www.yageo.com/documents/recent/PYu-RC_Group_51_RoHS_L_7.pdf; Supplier 1: Digi-Key; Supplier Part Number 1: 311-150KHRDKR-ND; Stock 1: 0; Pricing 1: 1=0.1, 10=0.015, 100=0.006, 1000=0.00268, 2500=0.00233 (USD); Case/Package: 0603; Min Operating Temperature: -55°C; Max Operating Temperature: 155°C; Tolerance: 1%; Voltage Rating: 50V; Number of Terminations: 2; Max Power Dissipation: 100mW; Height: 0.022inch
footprint RESC1608X06N (Chip Resistor, 2-Leads, Body 1.60x0.80mm, IPC Medium Density)
pins: 1, 2

## RC0603FR-07180RL
designator R?, comment 180 1%
RES SMD 180 OHM 1% 1/10W 0603; Manufacturer: Yageo; Manufacturer Part Number: RC0603FR-07180RL; Power (Watts): 0.1W, 1/10W; Temperature Coefficient: ±100ppm/°C; Resistance: 180ohms; Category: Resistors; Stock 1: 794,398; Tolerance: ±1%; Features: Moisture Resistant; Operating Temperature: -55°C ~ 155°C; Supplier 1: Digi-Key; Supplier Part Number 1: 311-180HRCT-ND
footprint RESC1608X06N (Chip Resistor, 2-Leads, Body 1.60x0.80mm, IPC Medium Density)
pins: 1, 2

## RC0603FR-07240RL
designator R?, comment 240 1%
RES SMD 240 OHM 1% 1/10W 0603; Manufacturer: Yageo; Manufacturer Part Number: RC0603FR-07240RL; Temperature Coefficient: 100ppm/°C; Resistance: 240R; Voltage Rating (DC): 50V; Working Voltage: 75V; Power Rating: 100mW; Supplier 1: Digi-Key; Category: Chip SMD Resistors; Stock 1: 1384191; Pricing 1: 1=0.10000, 10=0.02300, 100=0.00940, 1000=0.00421, 2500=0.00366 (USD); Case/Package: 0603; Min Operating Temperature: -55°C; Max Operating Temperature: 155°C; Tolerance: 1%; Number of Terminations: 2; Voltage Rating: 50V; Max Power Dissipation: 100mW; Features: Moisture Resistant; Height: 0.022inch; ComponentLink1URL: https://datasheet.ciiva.com/2508/pyu-r-int-thick-7-2508497.pdf?src-supplier=Digi-Key; ComponentLink1Description: https://datasheet.ciiva.com/2508/pyu-r-int-thick-7-2508497.pdf?src-supplier=Digi-Key; Supplier Part Number 1: 311-240HRCT-ND
footprint RESC1608X06N (Chip Resistor, 2-Leads, Body 1.60x0.80mm, IPC Medium Density)
pins: 1, 2

## RC0603FR-07330RL
designator R?, comment 330 1%
RES SMD 330 OHM 1% 1/10W 0603; Manufacturer: Yageo; Manufacturer Part Number: RC0603FR-07330RL; Power (Watts): 0.1W, 1/10W; Temperature Coefficient: ±100ppm/°C; Resistance: 330ohm; Category: Resistors; Tolerance: ±1%; Features: Moisture Resistant; Operating Temperature: -55°C ~ 155°C; Stock 1: 4,000,731; Supplier 1: Digi-Key; Supplier Part Number 1: 311-330HRCT-ND
footprint RESC1608X06N (Chip Resistor, 2-Leads, Body 1.60x0.80mm, IPC Medium Density)
pins: 1, 2

## RC0603FR-07390RL
designator R?, comment 390 1%
RES SMD 390 OHM 1% 1/10W 0603; Manufacturer: Yageo; Manufacturer Part Number: RC0603FR-07390RL; Power Rating: 100mW; Voltage Rating: 50V; Temperature Coefficient: 100ppm/°C; Working Voltage: 75V; Resistance: 390R; Supplier 1: Digi-Key; Category: Chip SMD Resistors; Stock 1: 1928728; Pricing 1: 1=0.10000, 10=0.02300, 100=0.00940, 1000=0.00421, 2500=0.00366 (USD); Case/Package: 0603; Min Operating Temperature: -55°C; Max Operating Temperature: 155°C; Voltage Rating (DC): 50V; Features: Moisture Resistant; Max Power Dissipation: 100mW; Number of Terminations: 2; Tolerance: 1%; Height: 0.022inch; ComponentLink1URL: https://datasheet.ciiva.com/2454/pyu-r-int-thick-7-2454678.pdf?src-supplier=Digi-Key; ComponentLink1Description: https://datasheet.ciiva.com/2454/pyu-r-int-thick-7-2454678.pdf?src-supplier=Digi-Key; Supplier Part Number 1: 311-390HRCT-ND
footprint RESC1608X06N (Chip Resistor, 2-Leads, Body 1.60x0.80mm, IPC Medium Density)
pins: 1, 2

## RC0603FR-07470KL
designator R?, comment 470K 1%
RES SMD 470K OHM 1% 1/10W 0603; Manufacturer: Yageo; Manufacturer Part Number: RC0603FR-07470KL; Power (Watts): 0.1W, 1/10W; Temperature Coefficient: ±100ppm/°C; Supplier 1: Digi-Key; Category: Resistors; Stock 1: 548386; Pricing 1: 1=0.1, 10=0.015, 100=0.006, 1000=0.00268, 2500=0.00233 (USD); Tolerance: ±1%; Features: Moisture Resistant; Operating Temperature: -55°C ~ 155°C; ComponentLink1URL: http://www.yageo.com/documents/recent/PYu-RC_Group_51_RoHS_L_7.pdf; ComponentLink1Description: http://www.yageo.com/documents/recent/PYu-RC_Group_51_RoHS_L_7.pdf; Supplier Part Number 1: 311-470KHRCT-ND; Resistance: 470kohm
footprint RESC1608X06N (Chip Resistor, 2-Leads, Body 1.60x0.80mm, IPC Medium Density)
pins: 1, 2

## RC0603FR-07470RL
designator R?, comment 470, 1%
RES SMD 470 OHM 1% 1/10W 0603; Manufacturer: Yageo; Manufacturer Part Number: RC0603FR-07470RL; Power (Watts): 0.1W, 1/10W; Temperature Coefficient: ±100ppm/°C; Resistance: 470 ohms; Category: Resistors; Stock 1: 820346; Tolerance: ±1%; Features: Moisture Resistant; Operating Temperature: -55°C ~ 155°C; ComponentLink1URL: http://www.yageo.com/documents/recent/PYu-RC_Group_51_RoHS_L_9.pdf; ComponentLink1Description: http://www.yageo.com/documents/recent/PYu-RC_Group_51_RoHS_L_9.pdf; Supplier 1: Digi-Key; Supplier Part Number 1: 311-470HRCT-ND
footprint RESC1608X06N (Chip Resistor, 2-Leads, Body 1.60x0.80mm, IPC Medium Density)
pins: 1, 2

## RC0603FR-07680RL
designator R?, comment 680, 1%
RES SMD 680 OHM 1% 1/10W 0603; Manufacturer: Yageo; Manufacturer Part Number: RC0603FR-07680RL; Power (Watts): 0.1W, 1/10W; Temperature Coefficient: ±100ppm/°C; Resistance: 680 ohms; Category: Resistors; Stock 1: 1,686,467; Tolerance: ±1%; Features: Moisture Resistant; Operating Temperature: -55°C ~ 155°C; ComponentLink1URL: http://www.yageo.com/documents/recent/PYu-RC_Group_51_RoHS_L_9.pdf; ComponentLink1Description: http://www.yageo.com/documents/recent/PYu-RC_Group_51_RoHS_L_9.pdf; Supplier 1: Digi-Key; Supplier Part Number 1: 311-680HRCT-ND
footprint RESC1608X06N (Chip Resistor, 2-Leads, Body 1.60x0.80mm, IPC Medium Density)
pins: 1, 2

## RC0603FR-07750RL
designator R?, comment 750, 1%
RES SMD 750 OHM 1% 1/10W 0603; Manufacturer: Yageo; Manufacturer Part Number: RC0603FR-07750RL; Power (Watts): 0.1W, 1/10W; Temperature Coefficient: ±100ppm/°C; Resistance: 750 ohms; Category: Resistors; Stock 1: 820346; Tolerance: ±1%; Features: Moisture Resistant; Operating Temperature: -55°C ~ 155°C; ComponentLink1URL: http://www.yageo.com/documents/recent/PYu-RC_Group_51_RoHS_L_9.pdf; ComponentLink1Description: http://www.yageo.com/documents/recent/PYu-RC_Group_51_RoHS_L_9.pdf; Supplier 1: Digi-Key; Supplier Part Number 1: 311-750HRCT-ND
footprint RESC1608X06N (Chip Resistor, 2-Leads, Body 1.60x0.80mm, IPC Medium Density)
pins: 1, 2

## RC0603JR-0727RL
designator R?, comment 27, 5%
RES SMD 27 OHM 5% 1/10W 0603; Manufacturer: Yageo; Manufacturer Part Number: RC0603JR-0727RL; Voltage Rating (DC): 50V; Resistance: 27R; Power Rating: 100mW; Temperature Coefficient: 100ppm/°C; Supplier 1: Digi-Key; Category: Chip SMD Resistors; Stock 1: 2052511; Pricing 1: 1=0.10000, 10=0.01900, 100=0.00770, 1000=0.00347, 2500=0.00301 (USD); Case/Package: 0603; Min Operating Temperature: -55°C; Max Operating Temperature: 155°C; Tolerance: 5%; Voltage Rating: 50V; ComponentLink1URL: https://datasheet.ciiva.com/7746/443971-7746479.pdf?src-supplier=Element14; ComponentLink1Description: https://datasheet.ciiva.com/7746/443971-7746479.pdf?src-supplier=Element14; Supplier Part Number 1: 311-27GRCT-ND
footprint RESC1608X06N (Chip Resistor, 2-Leads, Body 1.60x0.80mm, IPC Medium Density)
pins: 1, 2

## RC0805JR-070RL
designator R?, comment 0 1% 0805
RES 0 JUMPER 1/10W 0805; Manufacturer: Yageo; Manufacturer Part Number: RC0805JR-070RL; Resistance: 0mR; Tolerance: 5%; Power Rating: 125mW; Voltage Rating: 150V; Temperature Coefficient: 200ppm/°C; Stock 1: 18115000; Pricing 1: 5000=0.00447, 10000=0.00388, 25000=0.00341, 50000=0.00313, 125000=0.00307 (USD); Case/Package: 0805; Min Operating Temperature: -55°C; Max Operating Temperature: 155°C; Voltage Rating (DC): 150V; Height: 0.5mm; ComponentLink1URL: http://www.farnell.com/datasheets/1738694.pdf; ComponentLink1Description: http://www.farnell.com/datasheets/1738694.pdf; Supplier 1: Digi-Key; Supplier Part Number 1: 311-0.0ARCT-ND
footprint Chip2PinSM127P600-8N
pins: 1, 2

## RC1206JR-070RL
designator R?, comment 0 ohm 1206
RES SMD 0 OHM JUMPER 1/4W 1206; Manufacturer: Yageo; Manufacturer Part Number: RC1206JR-070RL; Max Power Dissipation: 250mW; Category: Chip SMD Resistors; Case/Package: 1206; Min Operating Temperature: -55°C; Max Operating Temperature: 155°C; Number of Terminations: 2; ComponentLink1URL: https://datasheet.ciiva.com/26835/getdatasheetpartid-743581-26835493.pdf?src-supplier=Verical; ComponentLink1Description: https://datasheet.ciiva.com/26835/getdatasheetpartid-743581-26835493.pdf?src-supplier=Verical; Supplier 1: Digi-Key; Supplier Part Number 1: 311-0.0ERCT-ND
footprint RESC3116X65X50NL20T20 (Chip Resistor, 2-Leads, Body 3.10x1.60mm, IPC Medium Density)
pins: 1, 2

## RK73Z3ATTE
designator R?, comment 0 Ohm
RES 0 OHM JUMPER 2512; Manufacturer: KOA Speer; Manufacturer Part Number: RK73Z3ATTE; Category: Resistors; Operating Temperature: -55°C ~ 175°C; ComponentLink1URL: http://www.yageo.com/documents/recent/PYu-RC_Group_51_RoHS_L_7.pdf; ComponentLink1Description: http://www.yageo.com/documents/recent/PYu-RC_Group_51_RoHS_L_7.pdf; Resistance: 0 ohm; Supplier 1: Digi-Key; Supplier Part Number 1: 2019-RK73Z3ATTEDKR-ND; Supplier 2: Mouser; Supplier Part Number 2: 660-RK73Z3ATTE
footprint Resistor 2512 (0.25''x0.125'')
pins: 1, 2

## RMCF0603FT1R43
designator R?, comment 1.43 1%
RES 1.43 1% 1/10W 0603; Manufacturer: Stackpole Electronics; Manufacturer Part Number: RMCF0603FT1R43; Temperature Coefficient: 200ppm/°C; Resistance: 1.43R; Supplier 1: Digi-Key; Category: Chip SMD Resistors; Stock 1: 14240; Pricing 1: 1=0.10000, 10=0.02400, 100=0.00970, 1000=0.00437, 2500=0.00380 (USD); Case/Package: 0603; Min Operating Temperature: -55°C; Max Operating Temperature: 155°C; Tolerance: 1%; ComponentLink1URL: https://www.seielect.com/catalog/sei-rmcf_rmcp.pdf?src-supplier=Digi-Key; ComponentLink1Description: https://www.seielect.com/catalog/sei-rmcf_rmcp.pdf?src-supplier=Digi-Key; Supplier Part Number 1: RMCF0603FT1R43CT-ND
footprint RESC1608X06N (Chip Resistor, 2-Leads, Body 1.60x0.80mm, IPC Medium Density)
pins: 1, 2

## RMCF0805FT100R
designator R?, comment 100Ω 1% 0805
RES 100 OHM 1% 1/8W 0805; Manufacturer: Stackpole; Manufacturer Part Number: RMCF0805FT100R; Power Rating: 125mW; Case/Package: 0805; Min Operating Temperature: -55°C; Max Operating Temperature: 155°C; Resistance: 100Ω; Tolerance: 1%; Height: 0.5mm; ComponentLink1URL: http://www.farnell.com/datasheets/1738694.pdf; ComponentLink1Description: http://www.farnell.com/datasheets/1738694.pdf; Supplier 1: Digi-Key; Supplier Part Number 1: RMCF0805FT100RCT-ND; Supplier 2: Newark; Supplier Part Number 2: 32AC2658
footprint Chip2PinSM127P600-8N
pins: 1, 2

## RMCF1206JT62R0
designator R?, comment 62 5%
RES 62 OHM 5% 1/4W 1206; Manufacturer: Stackpole; Manufacturer Part Number: RMCF1206JT62R0; Power (Watts): 0.25W, 1/4W; Temperature Coefficient: ±200ppm/°C; Resistance: 62ohms; Category: Resistors; Tolerance: ±5%; Features: Automotive; Operating Temperature: -55°C ~ 155°C; ComponentLink1URL: http://www.yageo.com/documents/recent/PYu-RC_Group_51_RoHS_L_7.pdf; ComponentLink1Description: http://www.yageo.com/documents/recent/PYu-RC_Group_51_RoHS_L_7.pdf; Supplier 1: Digi-Key; Supplier Part Number 1: RMCF1206JT62R0CT-ND
footprint RESC3116X65X50NL20T20 (Chip Resistor, 2-Leads, Body 3.10x1.60mm, IPC Medium Density)
pins: 1, 2

## RMCF1210JT2R00
designator R?, comment 2 1% 0.5W
RES 2 OHM 5% 1/2W 1210; Manufacturer: Stackpole Electronics; Manufacturer Part Number: RMCF1210JT2R00; Resistance: 2R; Power Rating: 500mW; Temperature Coefficient: 400ppm/°C; Category: Chip SMD Resistors; Case/Package: 1210; Min Operating Temperature: -55°C; Max Operating Temperature: 155°C; Number of Terminations: 2; Tolerance: 1%; Max Power Dissipation: 500mW; Height: 0.026inch; ComponentLink1URL: http://www.seielect.com/Catalog/SEI-csr.pdf?src-supplier=Future+Electronics; ComponentLink1Description: http://www.seielect.com/Catalog/SEI-csr.pdf?src-supplier=Future+Electronics; Supplier 1: Digi-Key; Supplier Part Number 1: RMCF1210JT2R00CT-ND
footprint RESISTOR 1210 (3.2mm x 2.5mm)
pins: 1, 2

## RMCF2512FT2R00
designator R?, comment 2 OHM 1% 1W
RES 2 OHM 1% 1W 2512; Manufacturer: Stackpole; Manufacturer Part Number: RMCF2512FT2R00; Temperature Coefficient: ±100ppm/°C; Category: Resistors; Tolerance: ±1%; Power (Watts): 1W; Operating Temperature: -55°C ~ 175°C; Supplier 1: Arrow Electronics; Supplier Part Number 1: RMCF2512FT2R00
footprint Resistor 2512 (0.25''x0.125'')
pins: 1, 2

## Round 50mil Pad SMT
designator TP?  (value not drawn)  (no BOM)
SIG round 50mil Pad; Load: NO LOAD; Testpoint: True
footprint SMT TEST POINT 50mil PAD
pins: 1

## SD05T1G
designator D?, comment 5V TVS
DIODE TVS 5VW SOD323; Manufacturer: ON Semiconductor; Manufacturer Part Number: SD05T1G; Type: Zener; Current - Peak Pulse (10/1000µs): 24A (8/20µs); Power - Peak Pulse: 350W; Power Line Protection: No; Capacitance @ Frequency: 350pF @ 1MHz; Supplier 1: Digi-Key; Category: Circuit Protection; Stock 1: 46667; Pricing 1: 1=0.49, 10=0.365, 100=0.2068, 500=0.13698, 1000=0.10502 (USD); Voltage - Reverse Standoff (Typ): 5V; Applications: Automotive; Operating Temperature: -55°C ~ 150°C (TJ); Mounting Type: Surface Mount; ComponentLink1URL: http://www.onsemi.com/pub/Collateral/SD05T1-D.PDF; ComponentLink1Description: http://www.onsemi.com/pub/Collateral/SD05T1-D.PDF; Supplier Part Number 1: SD05T1GOSCT-ND
footprint TSSOP50P250X110-2N (Footprint not found)
pins: 1 K, 2 A

## SD103AWS-TP
designator D?, comment 40V 400mA
DIODE SCHOTTKY 40V 350MA SOD323; Manufacturer: Micro Commercial Co; Manufacturer Part Number: SD103AWS-TP; Reverse Recovery Time: 5ns; Peak Non-Repetitive Surge Current: 600mA; Forward Voltage: 800mV; Forward Current: 200mA; Max Reverse Voltage (DC): 30V; Element Configuration: Single; Power Dissipation: 200mW; Peak Reverse Current: 2uA; Capacitance: 10pF; Category: Rectifier Diodes; Stock 1: 418305; Pricing 1: 1=0.20000, 10=0.18100, 25=0.17240, 100=0.07590, 250=0.07288, 500=0.05962, 1000=0.04140 (USD); Min Operating Temperature: -65°C; Max Operating Temperature: 125°C; Average Rectified Current: 350mA; Max Repetitive Reverse Voltage (Vrrm): 40V; Max Forward Surge Current (Ifsm): 600mA; Recovery Time: 5ns; Max Surge Current: 600mA; Voltage Rating (DC): 30V; Current Rating: 200mA; Output Current: 200mA; Reverse Voltage: 30V; Max Reverse Leakage Current: 2uA; Height: 1mm; ComponentLink1URL: https://datasheet.ciiva.com/4714/bat54ht1-d-72881-4714706.pdf?src-supplier=Mouser; ComponentLink1Description: https://datasheet.ciiva.com/4714/bat54ht1-d-72881-4714706.pdf?src-supplier=Mouser; Supplier 1: Digi-Key; Supplier Part Number 1: BAT54HT1GOSCT-ND; Supplier 2: Newark; Supplier Part Number 2: 83H6419; Supplier 3: Arrow Electronics; Supplier Part Number 3: BAT54HT1G
footprint TSSOP50P250X117-2N (TSSOP, 2-Leads, Body 1.28x1.66mm, Pitch 0.50mm, IPC Medium Density)
pins: 1 K, 2 A

## Signal Net Tie_20mil
designator NT?, comment 20mil  (net tie, no BOM)
SIG Net Tie 20mil; Load: NO LOAD
footprint 20MIL_NET_TIE (Signal Net Tie)
pins: 1, 2
text: NT